# EAGLE library part BREAKOUT_V1 (library breakout_base)
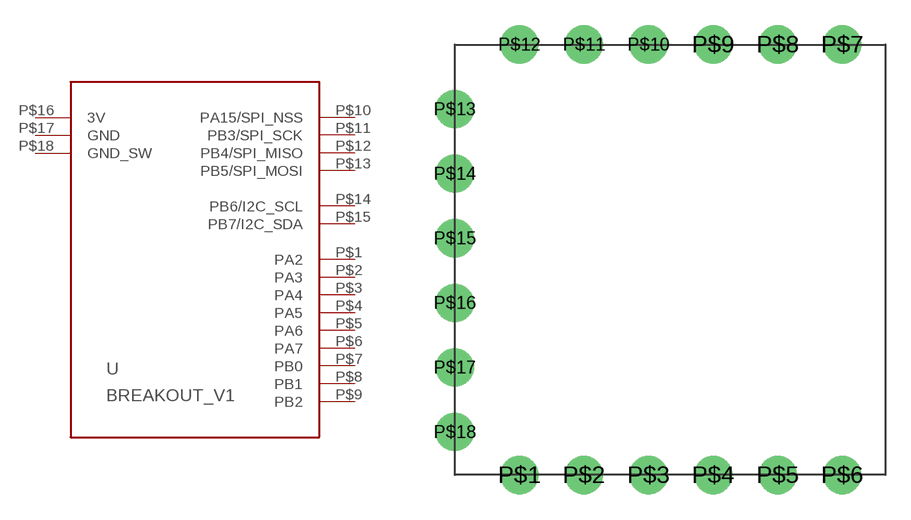
[diagram p1: symbol with the pads of BREAKOUT_V1; footprint BREAKOUT_V1]

Designator prefix -

## BREAKOUT_V1  [BREAKOUT_V1]
P$1  PA2
P$2  PA3
P$3  PA4
P$4  PA5
P$5  PA6
P$6  PA7
P$7  PB0
P$8  PB1
P$9  PB2
P$10  PA15/SPI_NSS
P$11  PB3/SPI_SCK
P$12  PB4/SPI_MISO
P$13  PB5/SPI_MOSI
P$14  PB6/I2C_SCL
P$15  PB7/I2C_SDA
P$16  3V
P$17  GND
P$18  GND_SW

## Footprint BREAKOUT_V1 (pad centres in mm)
drill 1.5: P$1 3.81,0; P$2 7.62,0; P$3 11.43,0; P$4 15.24,0; P$5 19.05,0; P$6 22.86,0; P$7 22.86,25.4; P$8 19.05,25.4; P$9 15.24,25.4; P$10 11.43,25.4; P$11 7.62,25.4; P$12 3.81,25.4; P$13 0,21.59; P$14 0,17.78; P$15 0,13.97; P$16 0,10.16; P$17 0,6.35; P$18 0,2.54